# Altium schematic symbol library USB.SchLib: 2 symbols
Pins are listed as number, name and electrical type; pins without a type are passive.

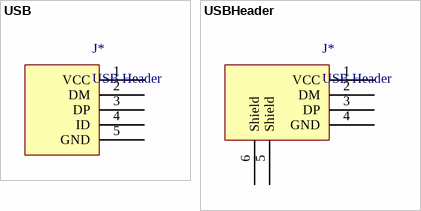
[diagram p0: symbols USB to USBHeader]

## USB
designator J*, comment USB Header
footprint USB0.65-5
pins: 1 VCC, 2 DM, 3 DP, 4 ID, 5 GND

## USBHeader
designator J*, comment USB Header
footprint USB/SM2.5-6H4 (Connector; USB1.1, Type A, SM; 4 Position; Right Angle)
pins: 1 VCC, 2 DM, 3 DP, 4 GND, 5 Shield, 6 Shield